# Altium schematic symbol library QUTMS_PowerSupplyLibrary.SchLib: 3 symbols
Pins are listed as number, name and electrical type; pins without a type are passive.

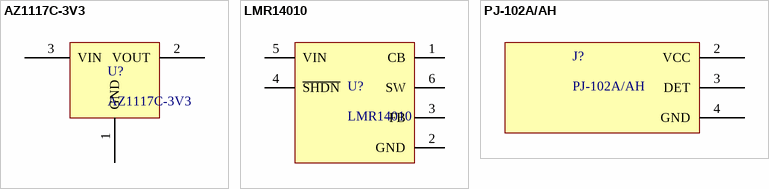
[diagram p0: symbols AZ1117C-3V3 to PJ-102A/AH]

## AZ1117C-3V3
designator U?
Linear Voltage Regulator IC 1 Output 1A SOT-223
footprint SOT-223
pins: 1 GND, 2 VOUT, 3 VIN

## LMR14010
designator U?
Buck Switching Regulator IC Positive Adjustable 0.765V 1 Output 1A SOT-23-6 Thin, TSOT-23-6
footprint LMR14010
pins: 1 CB, 2 GND, 3 FB, 4 ~{SHDN}, 5 VIN, 6 SW

## PJ-102A/AH
designator J?
Power Barrel Connector Jack 2.00mm ID (0.079"), 5.50mm OD (0.217") Through Hole, Right Angle
footprint PJ-102A/AH
pins: 2 VCC, 3 DET, 4 GND